# Altium footprint library 按键.PcbLib: 74 footprints (part 5 of 5)
Each footprint in its own frame and in the unit in brackets; x right, y up, seen from the top. Pads: shape width x height; smd on the part's side, far side on the other; paste and mask are expansions set on the pad; w line width, h text height; cw(c..) or ccw(c..) is an arc to the next point about the centre after c.
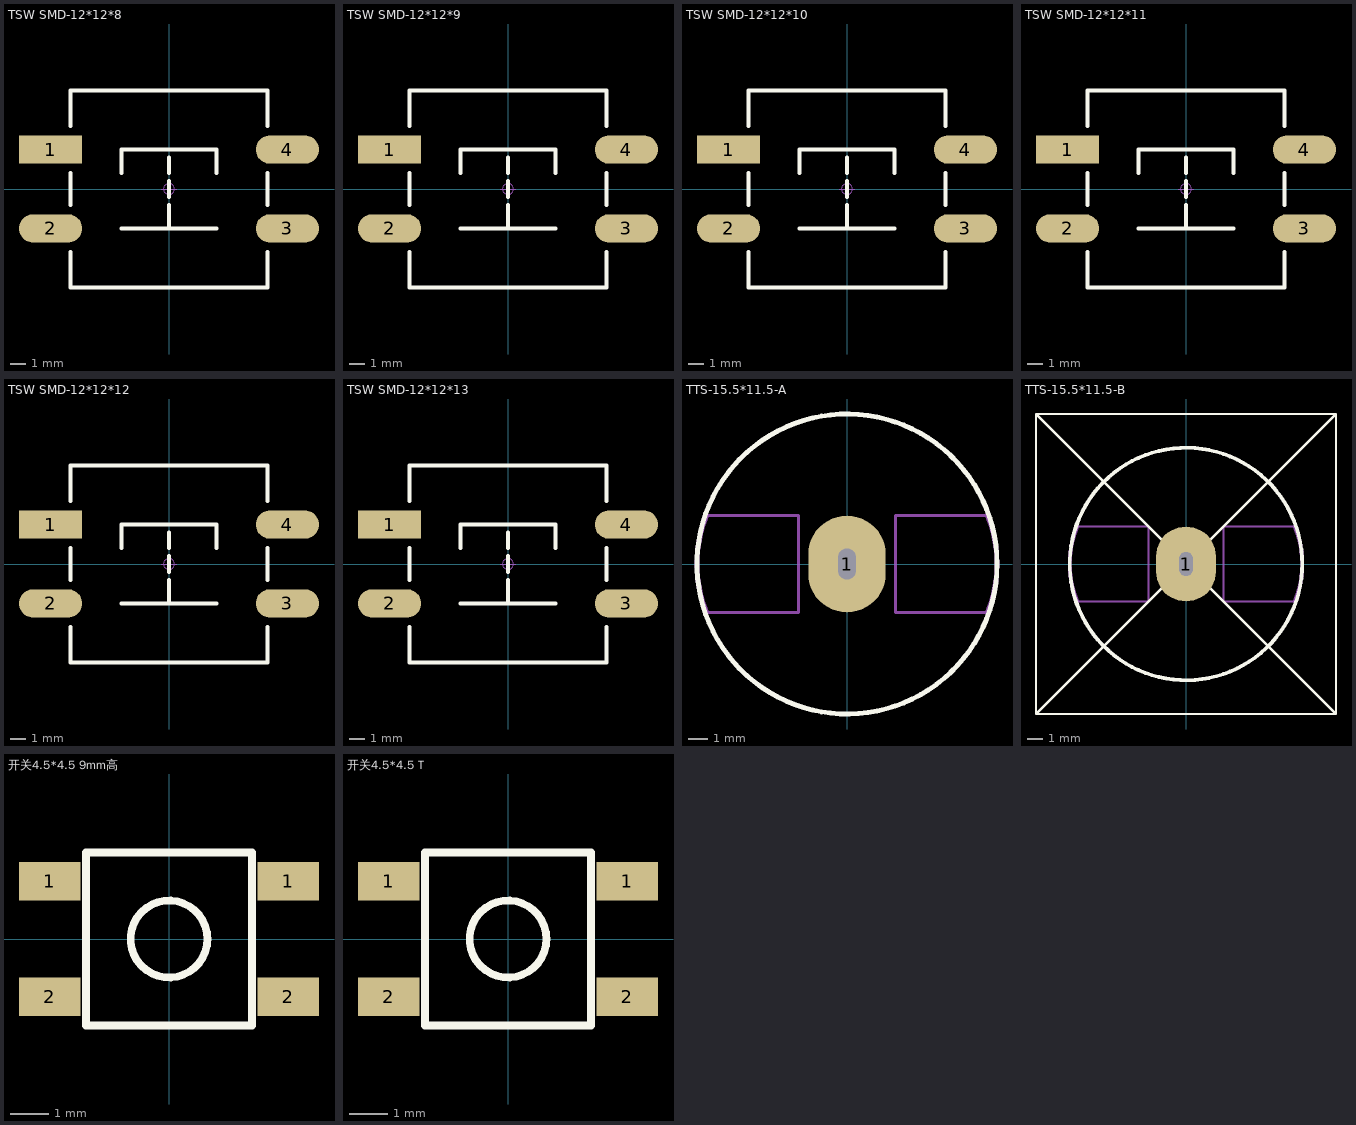
[diagram p4: the footprints below, top view; thin cyan lines are the x and y axes]

## TSW SMD-12*12*8 [mm] "12*12*8mm"
pads (4):
  rect 4x1.8 smd: 1(-7.5,2.5)
  oval 4x1.8 smd: 2(-7.5,-2.5) 3(7.5,-2.5) 4(7.5,2.5)
Top Overlay:
  lines w0.254: -6.25,-4 -6.25,-6.25 6.25,-6.25 6.25,-4 ; -6.25,-1 -6.25,1 ; -6.25,4 -6.25,6.25 6.25,6.25 6.25,4 ; -3,-2.5 3,-2.5 ; -3,1 -3,2.5 3,2.5 3,1 ; 0,-2.5 0,-1 ; 0,-0.5 0,0.5 ; 0,1 0,2 ; 6.25,-1 6.25,1
Mechanical 15:
  circle w0.05: c0,0 r0.35
  lines w0.05: -0.5,0 0.5,0 ; 0,-0.5 0,0.5
3D body "TSW SMD-12x12x8.STEP": height 8.15, standoff 0, extent -7.6,-6 7.6,6

## TSW SMD-12*12*9 [mm] "12*12*9mm"
pads (4):
  rect 4x1.8 smd: 1(-7.5,2.5)
  oval 4x1.8 smd: 2(-7.5,-2.5) 3(7.5,-2.5) 4(7.5,2.5)
Top Overlay:
  lines w0.254: -6.25,-4 -6.25,-6.25 6.25,-6.25 6.25,-4 ; -6.25,-1 -6.25,1 ; -6.25,4 -6.25,6.25 6.25,6.25 6.25,4 ; -3,-2.5 3,-2.5 ; -3,1 -3,2.5 3,2.5 3,1 ; 0,-2.5 0,-1 ; 0,-0.5 0,0.5 ; 0,1 0,2 ; 6.25,-1 6.25,1
Mechanical 15:
  circle w0.05: c0,0 r0.35
  lines w0.05: -0.5,0 0.5,0 ; 0,-0.5 0,0.5
3D body "TSW SMD-12x12x9.STEP": height 9.15, standoff 0, extent -7.6,-6 7.6,6

## TSW SMD-12*12*10 [mm] "12*12*10mm"
pads (4):
  rect 4x1.8 smd: 1(-7.5,2.5)
  oval 4x1.8 smd: 2(-7.5,-2.5) 3(7.5,-2.5) 4(7.5,2.5)
Top Overlay:
  lines w0.254: -6.25,-4 -6.25,-6.25 6.25,-6.25 6.25,-4 ; -6.25,-1 -6.25,1 ; -6.25,4 -6.25,6.25 6.25,6.25 6.25,4 ; -3,-2.5 3,-2.5 ; -3,1 -3,2.5 3,2.5 3,1 ; 0,-2.5 0,-1 ; 0,-0.5 0,0.5 ; 0,1 0,2 ; 6.25,-1 6.25,1
Mechanical 15:
  circle w0.05: c0,0 r0.35
  lines w0.05: -0.5,0 0.5,0 ; 0,-0.5 0,0.5
3D body "TSW SMD-12x12x10.STEP": height 10.15, standoff 0, extent -7.6,-6 7.6,6

## TSW SMD-12*12*11 [mm] "12*12*11mm"
pads (4):
  rect 4x1.8 smd: 1(-7.5,2.5)
  oval 4x1.8 smd: 2(-7.5,-2.5) 3(7.5,-2.5) 4(7.5,2.5)
Top Overlay:
  lines w0.254: -6.25,-4 -6.25,-6.25 6.25,-6.25 6.25,-4 ; -6.25,-1 -6.25,1 ; -6.25,4 -6.25,6.25 6.25,6.25 6.25,4 ; -3,-2.5 3,-2.5 ; -3,1 -3,2.5 3,2.5 3,1 ; 0,-2.5 0,-1 ; 0,-0.5 0,0.5 ; 0,1 0,2 ; 6.25,-1 6.25,1
Mechanical 15:
  circle w0.05: c0,0 r0.35
  lines w0.05: -0.5,0 0.5,0 ; 0,-0.5 0,0.5
3D body "TSW SMD-12x12x11.STEP": height 11.15, standoff 0, extent -7.6,-6 7.6,6

## TSW SMD-12*12*12 [mm] "12*12*12mm"
pads (4):
  rect 4x1.8 smd: 1(-7.5,2.5)
  oval 4x1.8 smd: 2(-7.5,-2.5) 3(7.5,-2.5) 4(7.5,2.5)
Top Overlay:
  lines w0.254: -6.25,-4 -6.25,-6.25 6.25,-6.25 6.25,-4 ; -6.25,-1 -6.25,1 ; -6.25,4 -6.25,6.25 6.25,6.25 6.25,4 ; -3,-2.5 3,-2.5 ; -3,1 -3,2.5 3,2.5 3,1 ; 0,-2.5 0,-1 ; 0,-0.5 0,0.5 ; 0,1 0,2 ; 6.25,-1 6.25,1
Mechanical 15:
  circle w0.05: c0,0 r0.35
  lines w0.05: -0.5,0 0.5,0 ; 0,-0.5 0,0.5
3D body "TSW SMD-12x12x12.STEP": height 12.15, standoff 0, extent -7.6,-6 7.6,6

## TSW SMD-12*12*13 [mm] "12*12*13mm"
pads (4):
  rect 4x1.8 smd: 1(-7.5,2.5)
  oval 4x1.8 smd: 2(-7.5,-2.5) 3(7.5,-2.5) 4(7.5,2.5)
Top Overlay:
  lines w0.254: -6.25,-4 -6.25,-6.25 6.25,-6.25 6.25,-4 ; -6.25,-1 -6.25,1 ; -6.25,4 -6.25,6.25 6.25,6.25 6.25,4 ; -3,-2.5 3,-2.5 ; -3,1 -3,2.5 3,2.5 3,1 ; 0,-2.5 0,-1 ; 0,-0.5 0,0.5 ; 0,1 0,2 ; 6.25,-1 6.25,1
Mechanical 15:
  circle w0.05: c0,0 r0.35
  lines w0.05: -0.5,0 0.5,0 ; 0,-0.5 0,0.5
3D body "TSW SMD-12x12x13.STEP": height 13.15, standoff 0, extent -7.6,-6 7.6,6

## TTS-15.5*11.5-A [mm] "弹簧按键15.5mm*11.5mm(直径*高度）"
pads (1):
  oval 4x5 hole 0.9 slot 1.6 at 90 deg: 1(0,0)
Top Overlay:
  circle w0.254: c0,0 r7.75
Mechanical 15:
  lines w0.152: -7.25,-2.5 -2.5,-2.5 -2.5,2.5 -3,2.5 -7.25,2.5 ; 7.25,-2.5 2.5,-2.5 2.5,2.5 3,2.5 7.25,2.5
  lines w0.254: -7.25,-2.5 cw(c-1.25,0) -7.25,2.5 ; 7.25,-2.5 ccw(c1.25,0) 7.25,2.5
3D body "弹?": height 12.9, standoff -2.5, extent -7.75,-7.75 7.75,7.75

## TTS-15.5*11.5-B [mm] "弹簧按键15.5mm*11.5mm(直径*高度）"
pads (1):
  oval 4x5 hole 0.9 slot 1.6 at 90 deg: 1(0,0)
Top Overlay:
  circle w0.254: c0,0 r7.75
  lines w0.152: -10,-10 10,10 ; -10,-10 -10,0 -10,10 ; -10,-10 10,-10 ; -10,10 10,-10 ; -10,10 10,10 ; 10,-10 10,10
Mechanical 15:
  lines w0.152: -7.25,-2.5 -2.5,-2.5 -2.5,2.5 -3,2.5 -7.25,2.5 ; 7.25,-2.5 2.5,-2.5 2.5,2.5 3,2.5 7.25,2.5
  lines w0.254: -7.25,-2.5 cw(c-1.25,0) -7.25,2.5 ; 7.25,-2.5 ccw(c1.25,0) 7.25,2.5
3D body "弹?": height 12.9, standoff -2.5, extent -7.75,-7.75 7.75,7.75

## 开关4.5*4.5 9mm高 [mm]
pads (4):
  rect 1.6x1 smd: 1(-3.1,1.5) 1(3.1,1.5) 2(-3.1,-1.5) 2(3.1,-1.5)
Top Overlay:
  circle w0.2: c0,0 r1
  lines w0.2: -2.159,-2.25 -2.159,2.25 2.159,2.25 2.159,-2.25 -2.159,-2.25
3D body: height 0.6, standoff 0, extent 2.555,1.038 3.876,1.97
3D body: height 0.6, standoff 0, extent 2.568,-1.976 3.889,-1.044
3D body: height 0.6, standoff 0, extent -3.905,-1.966 -2.584,-1.034
3D body: height 0.6, standoff 0, extent -3.916,1.039 -2.595,1.971
3D body: height 9, standoff 0, extent -1.213,-1.18 1.178,1.216
3D body: height 3.2, standoff 0, extent -2.611,-2.253 2.567,2.289

## 开关4.5*4.5 T [mm]
pads (4):
  rect 1.6x1 smd: 1(-3.1,1.5) 1(3.1,1.5) 2(-3.1,-1.5) 2(3.1,-1.5)
Top Overlay:
  circle w0.2: c0,0 r1
  lines w0.2: -2.159,-2.25 -2.159,2.25 2.159,2.25 2.159,-2.25 -2.159,-2.25